# Altium schematic symbol library SCH - POWER - SWITCHMODE - TI MC34063A_D_8.SchLib: 1 symbol
Pins are listed as number, name and electrical type; pins without a type are passive.

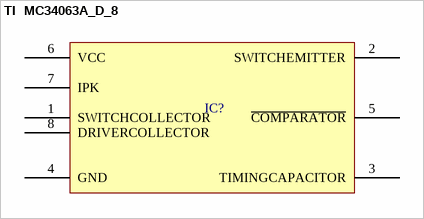
[diagram p0: symbol TI  MC34063A_D_8]

## TI  MC34063A_D_8
designator IC?  (value not drawn)
pins: 1 SWITCHCOLLECTOR, 2 SWITCHEMITTER, 3 TIMINGCAPACITOR, 4 GND, 5 ~{COMPARATOR}, 6 VCC, 7 IPK, 8 DRIVERCOLLECTOR